# Altium footprint library Conector AutomotrizOK.PcbLib: 1 footprints
Each footprint in its own frame and in the unit in brackets; x right, y up, seen from the top. Pads: shape width x height; smd on the part's side, far side on the other; paste and mask are expansions set on the pad; w line width, h text height; cw(c..) or ccw(c..) is an arc to the next point about the centre after c.
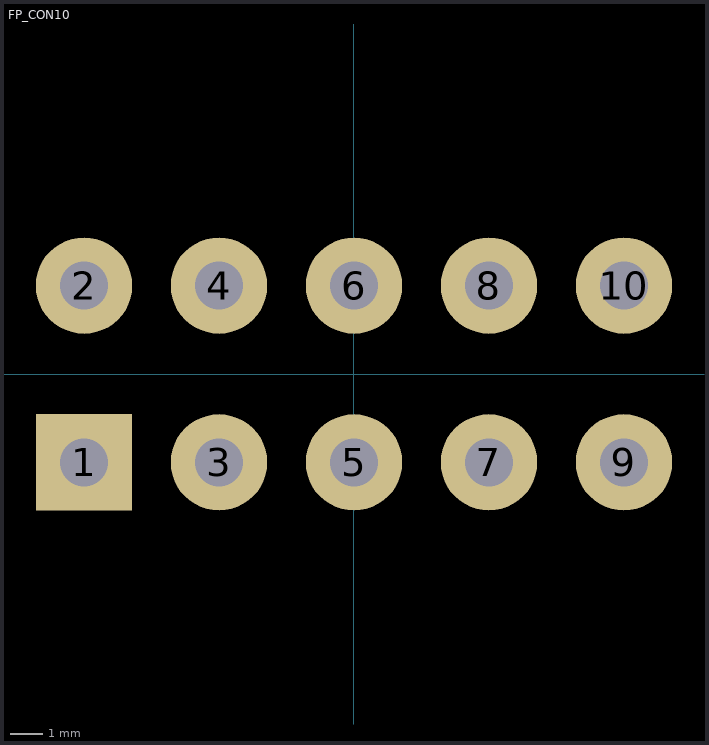
[diagram p0: the footprint, top view; thin cyan lines are the x and y axes]

## FP_CON10 [mm]
pads (10):
  rect 3x3 hole 1.5: 1(-8.4,-2.75)
  round 3 hole 1.5: 2(-8.4,2.75) 3(-4.2,-2.75) 4(-4.2,2.75) 5(0,-2.75) 6(0,2.75) 7(4.2,-2.75) 8(4.2,2.75) 9(8.4,-2.75) 10(8.4,2.75)